# EAGLE library part SF56 (library sim)
JAE Micro SIM Push Pull Slot SF56S006V4B
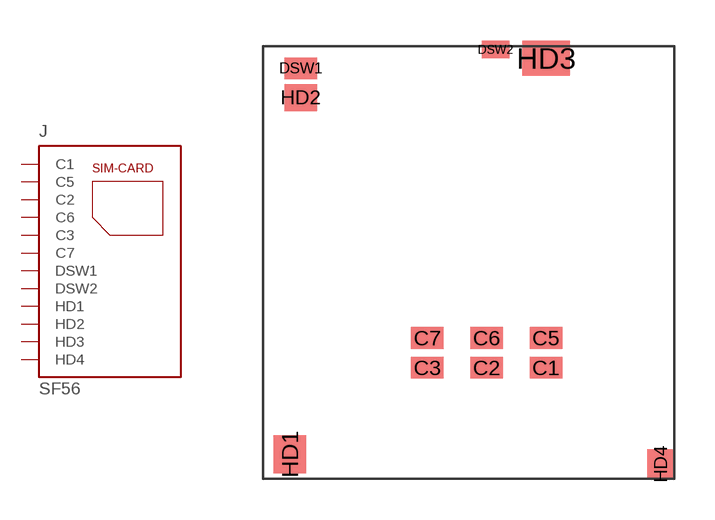
[diagram p0: symbol with the pads of JAE; footprint JAE]

Designator prefix J

## SF56  [JAE]
C1  C1  pas
C2  C2  pas
C3  C3  pas
C5  C5  pas
C6  C6  pas
C7  C7  pas
DSW1  DSW1  pas
DSW2  DSW2  pas
HD1  HD1  pas
HD2  HD2  pas
HD3  HD3  pas
HD4  HD4  pas

## Footprint JAE (pad centres in mm)
smd 1.2 x 0.8: C1 2.86,-11.89; C2 0.67,-11.89; C3 -1.52,-11.89; C5 2.86,-10.79; C6 0.67,-10.79; C7 -1.52,-10.79; DSW1 -6.2,-0.82
smd 1 x 0.65: DSW2 1,-0.12
smd 1.2 x 1.4: HD1 -6.6,-15.09
smd 1.2 x 1: HD2 -6.2,-1.9
smd 1.75 x 1.3: HD3 2.87,-0.45
smd 1 x 1.1: HD4 7.1,-15.45